# Altium schematic symbol library TPS5420QDRQ1.SchLib: 1 symbol
Pins are listed as number, name and electrical type; pins without a type are passive.

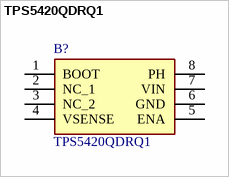
[diagram p0: symbol TPS5420QDRQ1]

## TPS5420QDRQ1
designator B?
Voltage Regulators - Switching Regulators 2A Wide-Input-Range Step-Down Converter; Manufacturer_Name: Texas Instruments; Geometry.Height: 1.75mm; Mouser Part Number: 595-TPS5420QDRQ1; Mouser Price/Stock: https://www.mouser.co.uk/ProductDetail/Texas-Instruments/TPS5420QDRQ1?qs=wkx8pu8tL7J7TtwDHJoKDw%3D%3D; Manufacturer_Part_Number: TPS5420QDRQ1; Datasheet Link: http://www.ti.com/lit/ds/symlink/tps5420-q1.pdf
footprint SOIC127P600X175-8N
pins: 1 BOOT, 2 NC_1, 3 NC_2, 4 VSENSE, 5 ENA, 6 GND, 7 VIN, 8 PH